# Altium schematic symbol library TDA2822M.SchLib: 1 symbol
Pins are listed as number, name and electrical type; pins without a type are passive.

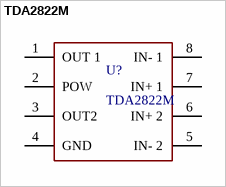
[diagram p0: symbol TDA2822M]

## TDA2822M
designator U?
DUAL LOW-VOLTAGE POWER AMPLIFIER
footprint DIP8
pins: 1 OUT 1 "Termal Pad", 2 POW "Termal Pad", 3 OUT2 "Termal Pad", 4 GND "Termal Pad", 5 IN- 2 "Termal Pad", 6 IN+ 2 "Termal Pad", 7 IN+ 1 "Termal Pad", 8 IN- 1 "Termal Pad"